# EAGLE library part ADP122 (library ICs)
Low Quiescent Current, CMOS Linear Regulator Input voltage supply range: 2.3 V to 5.5 V 300 mA maximum output current Very low dropout voltage: 85 mV at 300 mA load Low quiescent current: 45 μA at no load
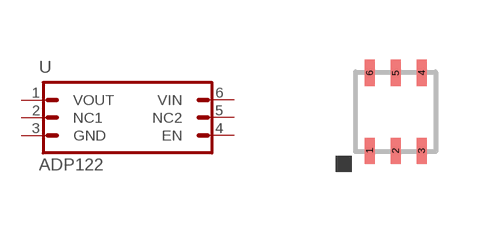
[diagram p4: symbol with the pads of 6-LFCSP_UD; footprint 6-LFCSP_UD]

Designator prefix U

## ADP122ACPZ-3.3-R7  [6-LFCSP_UD]
1  VOUT  pas
2  NC1  pas
3  GND  pas
4  EN
5  NC2  pas
6  VIN  pas

## Footprint 6-LFCSP_UD (pad centres in mm)
6-Pin 2mm x 2mm Ultra Thin Dual Lead 6-Lead Lead Frame Chip Scale Package [LFCSP_UD] No solder on exposed pad
smd 0.25 x 0.65: 1 -0.65,-0.975; 2 0,-0.975; 3 0.65,-0.975; 4 0.65,0.975; 5 0,0.975; 6 -0.65,0.975